# EAGLE library part MCP3912 (library (custom)-new-components_temp)
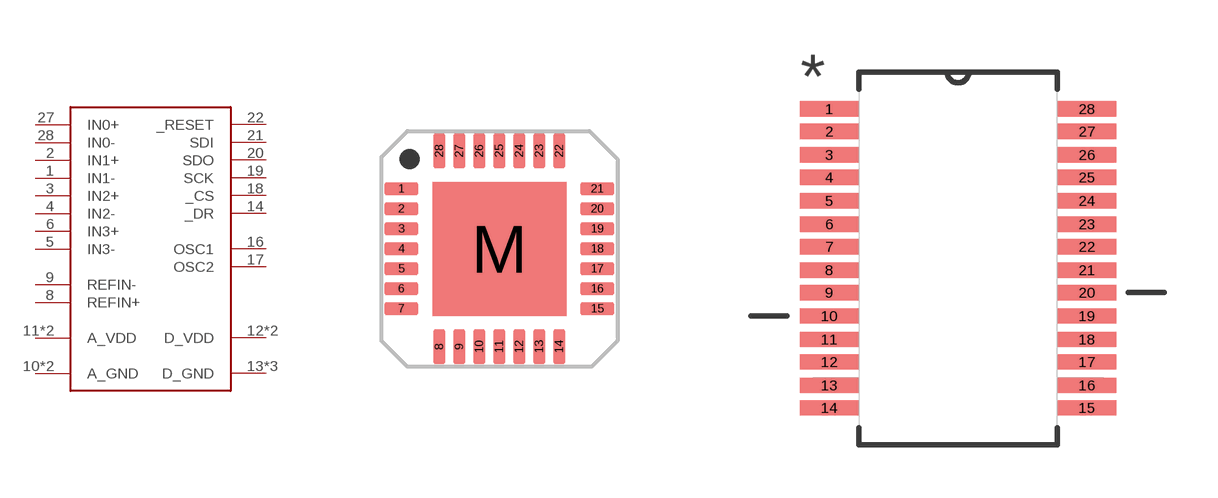
[diagram p1: symbol with the pads of QFN28; footprints QFN28, SOP65P780X200-28N]

Designator prefix -

## MCP3912QFN28 (MPN: MCP3912A1-E/MQ)  [QFN28]
1  IN1-
2  IN1+
3  IN2+
4  IN2-
5  IN3-
6  IN3+
8  REFIN+
9  REFIN-
10  A_GND
11  A_VDD
12  D_VDD
13  D_GND
14  _DR
15  D_GND
16  OSC1
17  OSC2
18  _CS
19  SCK
20  SDO
21  SDI
22  _RESET
23  D_GND
24  D_VDD
25  A_VDD
26  A_GND
27  IN0+
28  IN0-

## MCP3912SOP28 (MPN: MCP3912A1-E/SS)  [SOP65P780X200-28N]
1  A_VDD
2  IN0+
3  IN0-
4  IN1-
5  IN1+
6  IN2+
7  IN2-
8  IN3-
9  IN3+
14  REFIN+
15  REFIN-
16  A_GND
17  D_GND
18  _DR
20  D_GND
21  OSC1
22  OSC2
23  _CS
24  SCK
25  SDO
26  SDI
27  _RESET
28  D_VDD

## Footprint QFN28 (pad centres in mm)
28-Lead Plastic Quad Flat No Lead Package (ML) 6x6 mm Body, Punch Singulated (QFN) Source: ww1.microchip.com/downloads/en/DeviceDoc/39605c.pdf
smd 0.85 x 0.3: 1 -2.45,1.5; 2 -2.45,1; 3 -2.45,0.5; 4 -2.45,0; 5 -2.45,-0.5; 6 -2.45,-1; 7 -2.45,-1.5; 15 2.45,-1.5; 16 2.45,-1; 17 2.45,-0.5; 18 2.45,0; 19 2.45,0.5; 20 2.45,1; 21 2.45,1.5
smd 0.3 x 0.85: 8 -1.5,-2.45; 9 -1,-2.45; 10 -0.5,-2.45; 11 0,-2.45; 12 0.5,-2.45; 13 1,-2.45; 14 1.5,-2.45; 22 1.5,2.45; 23 1,2.45; 24 0.5,2.45; 25 0,2.45; 26 -0.5,2.45; 27 -1,2.45; 28 -1.5,2.45
smd 3.35 x 3.35: M 0,0

## Footprint SOP65P780X200-28N (pad centres in mm)
smd 1.651 x 0.432: 1 -3.632,4.216; 2 -3.632,3.581; 3 -3.632,2.921; 4 -3.632,2.286; 5 -3.632,1.626; 6 -3.632,0.965; 7 -3.632,0.33; 8 -3.632,-0.33; 9 -3.632,-0.965; 10 -3.632,-1.626; 11 -3.632,-2.286; 12 -3.632,-2.921; 13 -3.632,-3.581; 14 -3.632,-4.216; 15 3.632,-4.216; 16 3.632,-3.581; 17 3.632,-2.921; 18 3.632,-2.286; 19 3.632,-1.626; 20 3.632,-0.965; 21 3.632,-0.33; 22 3.632,0.33; 23 3.632,0.965; 24 3.632,1.626; 25 3.632,2.286; 26 3.632,2.921; 27 3.632,3.581; 28 3.632,4.216